# Altium schematic symbol library LED.SchLib: 2 symbols
Pins are listed as number, name and electrical type; pins without a type are passive.

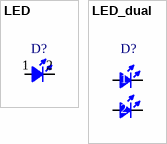
[diagram p0: symbols LED to LED_dual]

## LED
designator D?  (value not drawn)
footprint LED_1210_BACK_FIRE (Chip Capacitor, Body 3.2x2.5mm, IPC Low Density)
footprint 597-xxxx-607F (reverse mount led [Dialight])
footprint APTR3216 (kingbright reverse mount led)
footprint HSMx-C265 (reverse  mount LED [Broadcom])
footprint LED 5mm
footprint LED 0402/1005 (Chip Diode, 2-Leads, Body 1.00x0.50mm, IPC Medium Density)
footprint LED 0402/1005 BLUE (Chip Diode, 2-Leads, Body 1.00x0.50mm, IPC Medium Density)
footprint LED 0402/1005 GREEN (Chip Diode, 2-Leads, Body 1.00x0.50mm, IPC Medium Density)
footprint LED 0402/1005 RED (Chip Diode, 2-Leads, Body 1.00x0.50mm, IPC Medium Density)
footprint LED 0402/1005 YELLOW (Chip Diode, 2-Leads, Body 1.00x0.50mm, IPC Medium Density)
footprint LED 0603/1608 (Chip Diode, 2-Leads, Body 1.60x0.80mm, IPC Medium Density)
footprint LED 0603/1608 BLUE (Chip Diode, 2-Leads, Body 1.60x0.80mm, IPC Medium Density)
footprint LED 0603/1608 GREEN (Chip Diode, 2-Leads, Body 1.60x0.80mm, IPC Medium Density)
footprint LED 0603/1608 RED (Chip Diode, 2-Leads, Body 1.60x0.80mm, IPC Medium Density)
footprint LED 0603/1608 YELLOW (Chip Diode, 2-Leads, Body 1.60x0.80mm, IPC Medium Density)
footprint LED_0603_19-213
pins: 1 A, 2 K

## LED_dual
designator D?  (value not drawn)
LED
footprint 597-77xx-607F (reverse mount led dual [Dialight])
pins: 1 K, 2 A, 3 A, 4 K